# Altium schematic symbol library 0484050003.SchLib: 1 symbol
Pins are listed as number, name and electrical type; pins without a type are passive.

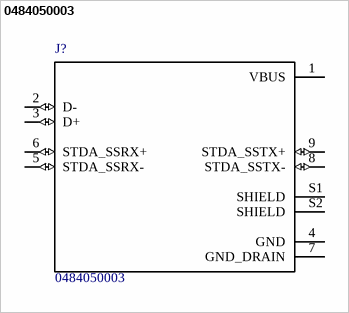
[diagram p0: symbol 0484050003]

## 0484050003
designator J?
USB-A (USB TYPE-A) USB 3.0 (USB 3.1 Gen 1, Superspeed) Receptacle Connector 9 Position Through Hole, Right Angle; MF: Molex; Package: None; Price: None; SnapEDA_Link: https://www.snapeda.com/parts/0484050003/Molex/view-part/555653/?ref=snap; Availability: Unavailable; MP: 0484050003; Value: *
footprint *MOLEX_0484050003_0484050003(Primary)
pins: 1 VBUS (power), 2 D- (io), 3 D+ (io), 4 GND (power), 5 STDA_SSRX- (io), 6 STDA_SSRX+ (io), 7 GND_DRAIN (power), 8 STDA_SSTX- (io), 9 STDA_SSTX+ (io), S1 SHIELD, S2 SHIELD